# Altium footprint library DM-03S-25D-A-Z.PcbLib: 1 footprints
Each footprint in its own frame and in the unit in brackets; x right, y up, seen from the top. Pads: shape width x height; smd on the part's side, far side on the other; paste and mask are expansions set on the pad; w line width, h text height; cw(c..) or ccw(c..) is an arc to the next point about the centre after c.
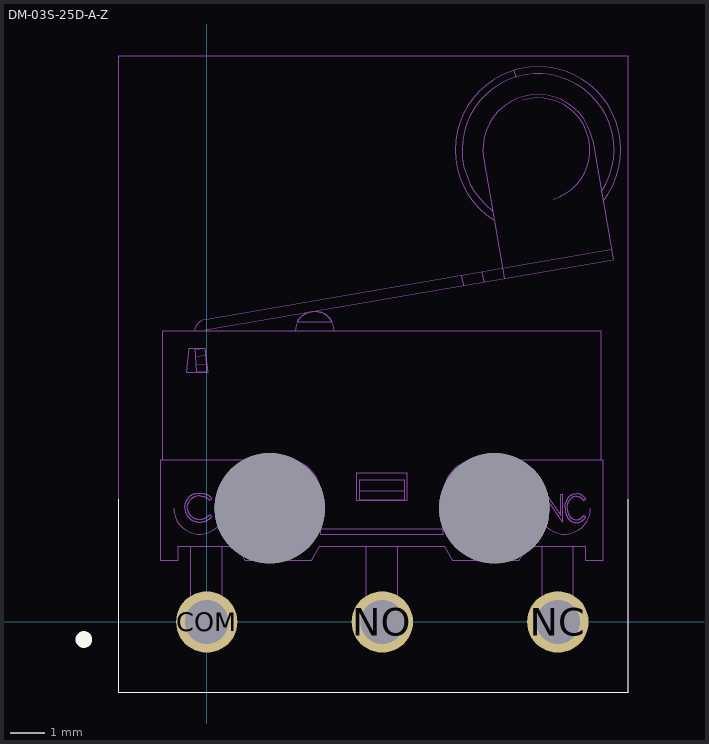
[diagram p0: the footprint, top view; thin cyan lines are the x and y axes]

## DM-03S-25D-A-Z [mil]
pads (5):
  round 70 hole 50 paste+0: COM(0,0) NC(400,0) NO(200,0)
  round 125.98 hole 125.98 unplated paste+0: ""(71.76,129.54) ""(327.67,129.54)
Top Overlay:
  circle w10: c-140,-20 r4.47
  lines w1: -100,140 -100,-80 480,-80 480,140
Mechanical 1:
  drawing of 2737 lines, arcs and shapes, not listed
  text ".Designator" at 143,130.27 h60
Comp_Outline:
  lines w1: -100,-80 480,-80 480,645 -100,645 -100,-80
3D body "DF-145D0.STEP": height 228.85, standoff -121.35, extent -51.97,-12.48 472.19,631.97